# EAGLE library part IRF7103 (library Marvin)
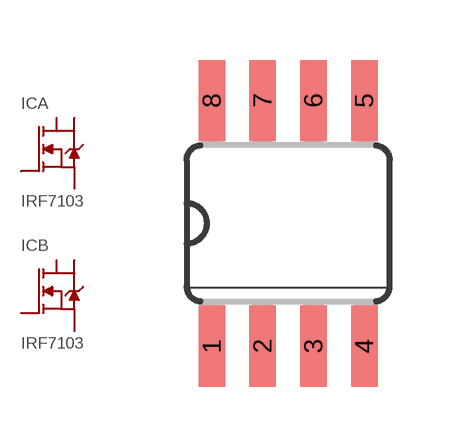
[diagram p7: symbol with the pads of SOIC8; footprint SOIC8]

Designator prefix IC; gates A=IRF7103 B=IRF7103

## IRF7103  [SOIC8]
1  A:S  pas
2  A:G  pas
3  B:S  pas
4  B:G  pas
5  B:D2  pas
6  B:D1  pas
7  A:D2  pas
8  A:D1  pas

## Footprint SOIC8 (pad centres in mm)
smd 0.66 x 2.032: 1 -1.905,-3.073; 2 -0.635,-3.073; 3 0.635,-3.073; 4 1.905,-3.073; 5 1.905,3.073; 6 0.635,3.073; 7 -0.635,3.073; 8 -1.905,3.073